# EAGLE library part SM07B-SRSS (library con-JST SH)
JST SH series header 1.00mm pitch disconnectable crimp style connectors, horizontal (side entry type), 7 pins
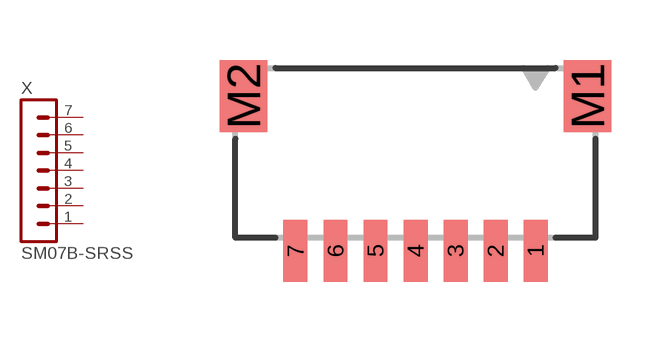
[diagram p11: symbol with the pads of SM07B-SRSS-TB; footprint SM07B-SRSS-TB]

Designator prefix X

## SM07B-SRSS-TB  [SM07B-SRSS-TB]
1  1  pas
2  2  pas
3  3  pas
4  4  pas
5  5  pas
6  6  pas
7  7  pas

## Footprint SM07B-SRSS-TB (pad centres in mm)
JST SH series header 1.00mm pitch disconnectable crimp style connectors, SMT horizontal (side entry type), 7 pins
smd 0.6 x 1.55: 1 3,0; 2 2,0; 3 1,0; 4 0,0; 5 -1,0; 6 -2,0; 7 -3,0
smd 1.2 x 1.8: M1 4.3,3.875; M2 -4.3,3.875